# Altium footprint library CONN SLW-111-01-x-S.PcbLib: 1 footprints
Each footprint in its own frame and in the unit in brackets; x right, y up, seen from the top. Pads: shape width x height; smd on the part's side, far side on the other; paste and mask are expansions set on the pad; w line width, h text height; cw(c..) or ccw(c..) is an arc to the next point about the centre after c.
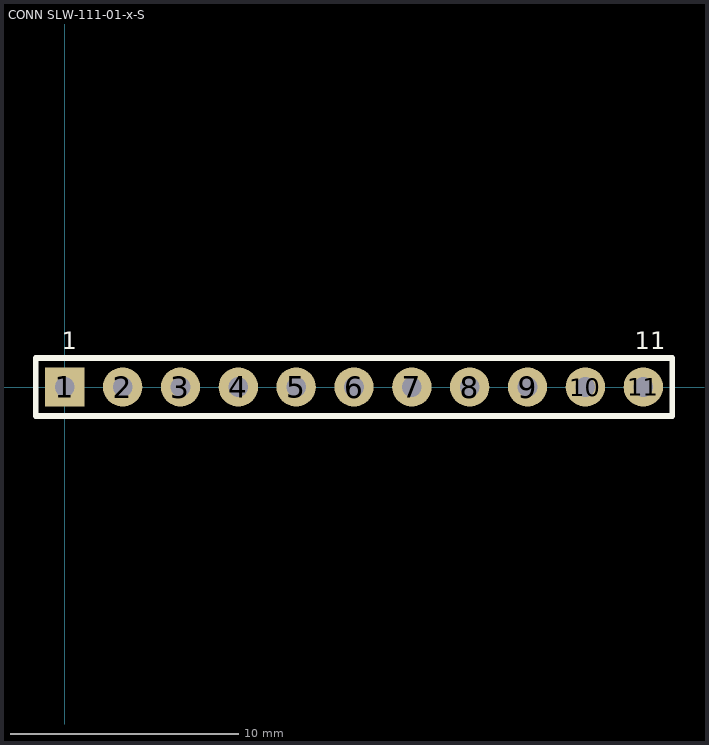
[diagram p0: the footprint, top view; thin cyan lines are the x and y axes]

## CONN SLW-111-01-x-S [mil]
pads (11):
  rect 68x68 hole 34: 1(0,0)
  round 68 hole 34: 2(100,0) 3(200,0) 4(300,0) 5(400,0) 6(500,0) 7(600,0) 8(700,0) 9(800,0) 10(900,0) 11(1000,0)
Top Overlay:
  lines w10: -50,-50 1050,-50 1050,50 -50,50 -50,-50
  text "11" at 985,65 h30
  text "1" at -5,65 h30
3D body: height 180.6, standoff -114.4, extent -50,-50 1050,50